# Altium schematic symbol library Schlib_IXYS.SchLib: 1 symbol
Pins are listed as number, name and electrical type; pins without a type are passive.

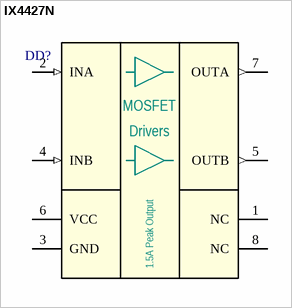
[diagram p0: symbol IX4427N]

## IX4427N
designator DD?  (value not drawn)
1.5-Ampere Dual Low-Side Ultrafast MOSFET Drivers; Manufacturer: IXYS; Package: SOIC8 (150 mil); Part Number: IX4427N
footprint SOIC-8 (SOIC-8 package)
pins: 1 NC (hiz), 2 INA (in), 3 GND (power), 4 INB (in), 5 OUTB (out), 6 VCC (power), 7 OUTA (out), 8 NC (hiz)
text: MOSFET; Drivers; 1.5A Peak Output